# EAGLE library part ADIS1644X (library ADI_iSensor_Libraries)
ADIS1647x - Miniature MEMS Inertial Measurement Unit (IMU) The ADIS16448 iSensor® device is a complete inertial system that includes a triaxial gyroscope, a triaxial accelerometer, a triaxial magnetometer, and pressure sensors. Each sensor in the ADIS16448 combines industry-leading iMEMS® technology with signal conditioning that optimizes dynamic performance. The factory calibration characterizes each sensor for sensitivity, bias, and alignment. As a result, each sensor has its own dynamic compensation formulas that provide accurate sensor measurements. The ADIS16448 provides a simple, cost-effective method for integrating accurate, multiaxis inertial sensing into industrial systems, especially when compared with the complexity and investment associated with discrete designs. All necessary motion testing and calibration are part of the production process at the factory, greatly reducing system integration time. Tight orthogonal alignment simplifies inertial frame alignment in navigation systems. The SPI and register structures provide a simple interface for data collection and configuration control. The ADIS16448 has a compatible pinout for systems that currently use other Analog Devices, Inc., IMU products, such as ADIS16334 or ADIS16485. The ADIS16448 is packaged in a module that is approximately 24.1 mm × 37.7 mm × 10.8 mm and has a standard connector interface. You are welcome to use this library for commercial purposes. For attribution, I ask that you reach out by sending me a link to the product being sold. My e-mail address is: juan@highcurrent.io
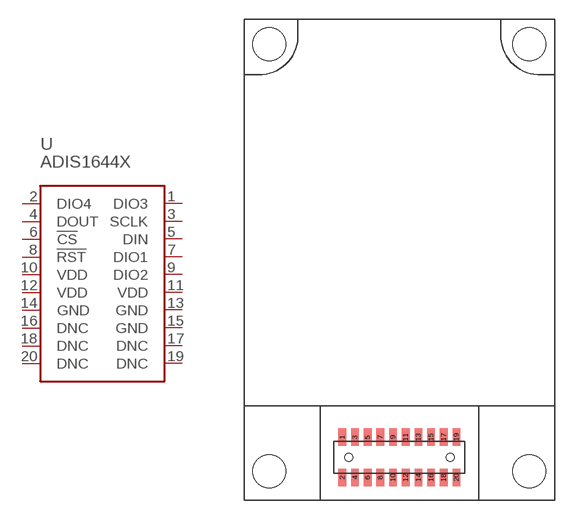
[diagram p0: symbol with the pads of ADIS16448; footprint ADIS16448]

Designator prefix U

## ADIS1644X  [ADIS16448]
1  DIO3
2  DIO4
3  SCLK
4  DOUT
5  DIN
6  !CS
7  DIO1
8  !RST
9  DIO2
10  VDD
11  VDD
12  VDD
13  GND
14  GND
15  GND
16  DNC
17  DNC
18  DNC
19  DNC
20  DNC

## Footprint ADIS16448 (pad centres in mm)
smd 0.61 x 1.37: 1 -4.5,5; 2 -4.5,1.8; 3 -3.5,5; 4 -3.5,1.8; 5 -2.5,5; 6 -2.5,1.8; 7 -1.5,5; 8 -1.5,1.8; 9 -0.5,5; 10 -0.5,1.8; 11 0.5,5; 12 0.5,1.8; 13 1.5,5; 14 1.5,1.8; 15 2.5,5; 16 2.5,1.8; 17 3.5,5; 18 3.5,1.8; 19 4.5,5; 20 4.5,1.8
hole 2.6 at -10.25,36
hole 2.6 at 10.25,36
hole 2.6 at -10.25,2.3
hole 2.6 at 10.25,2.3
hole 0.635 at -4,3.4
hole 0.635 at 4,3.4